# Altium footprint library GenericG.PcbLib: 32 footprints (part 2 of 2)
Each footprint in its own frame and in the unit in brackets; x right, y up, seen from the top. Pads: shape width x height; smd on the part's side, far side on the other; paste and mask are expansions set on the pad; w line width, h text height; cw(c..) or ccw(c..) is an arc to the next point about the centre after c.
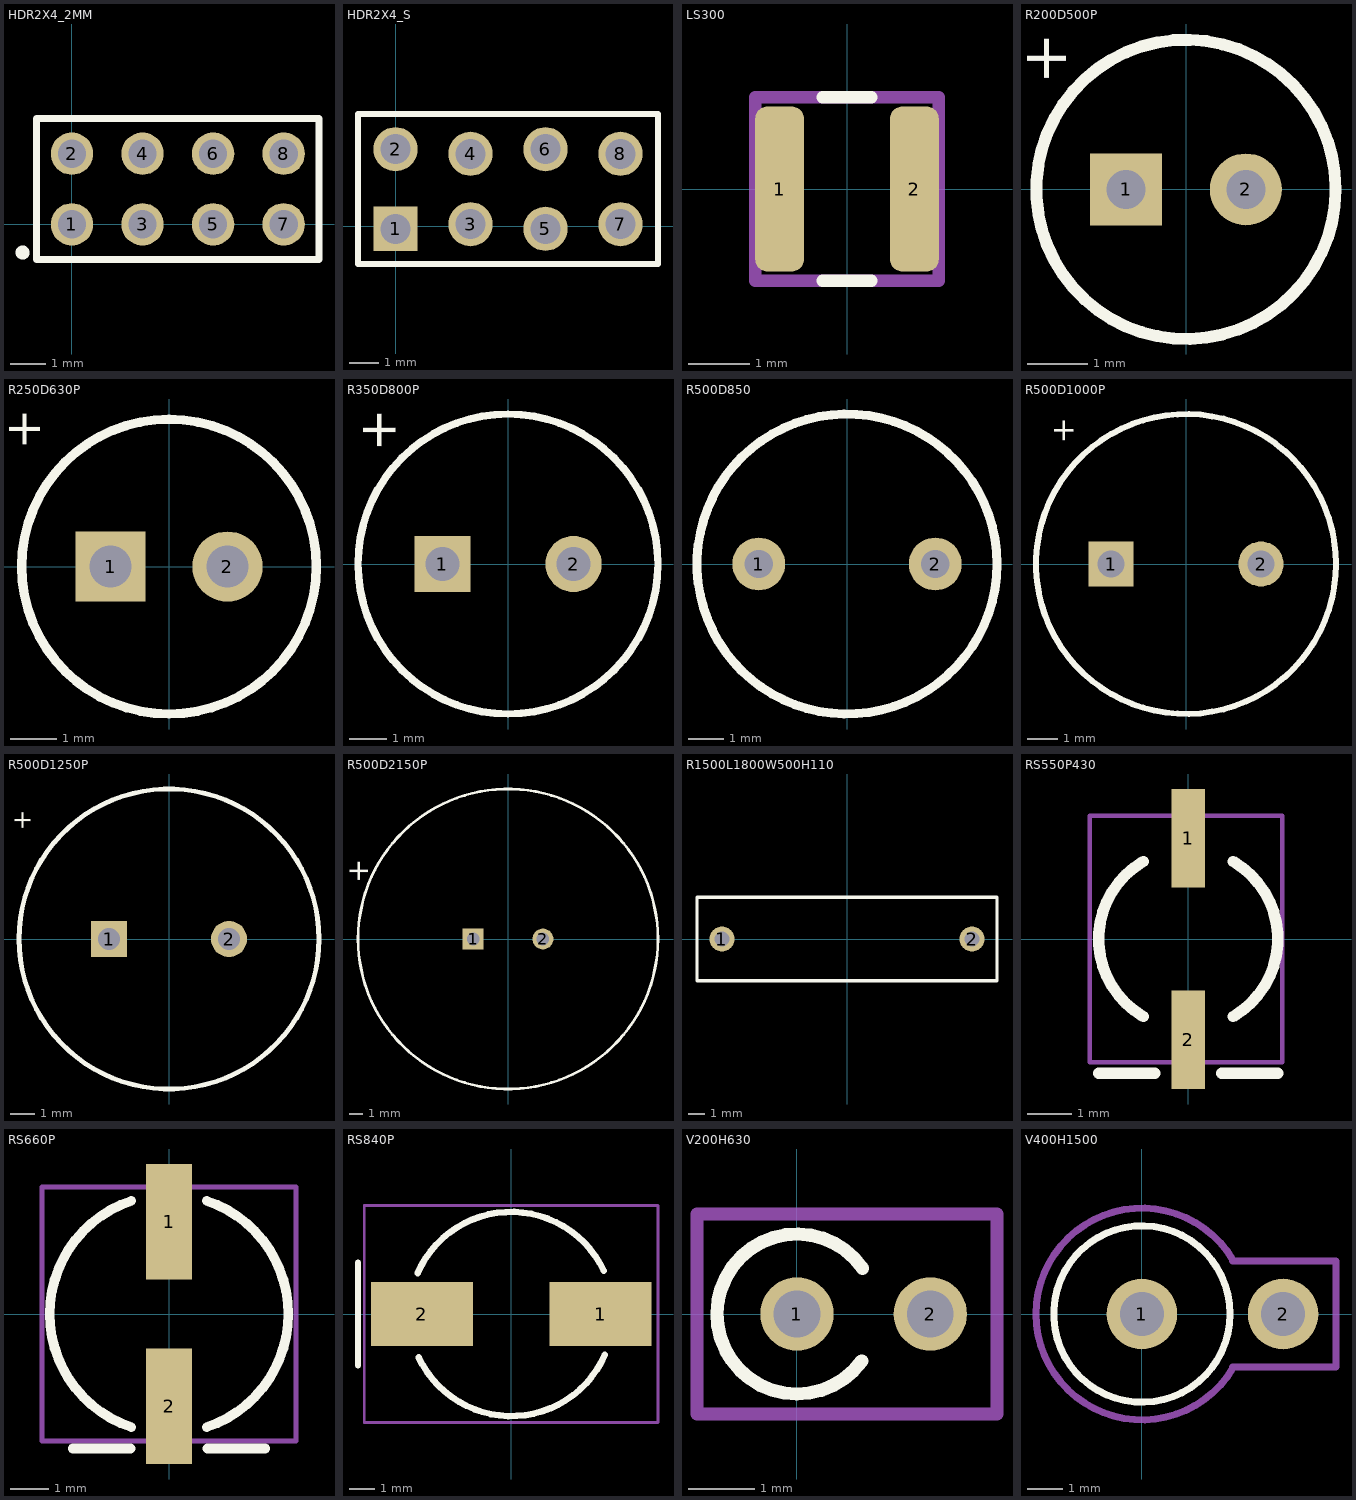
[diagram p1: the footprints below, top view; thin cyan lines are the x and y axes]

## HDR2X4_2MM [mm]
pads (8):
  round 1.2 hole 0.8: 1(0,0) 2(0,2) 3(2,0) 4(2,2) 5(4,0) 6(4,2) 7(6,0) 8(6,2)
Top Overlay:
  circle w0.2: c-1.4,-0.8 r0.1
  lines w0.2: -1,-1 7,-1 7,3 -1,3 -1,-1

## HDR2X4_S [mm] "Connector; Header; 4x2 Position"
pads (8):
  rect 1.5x1.5 hole 1.016: 1(0,-0.077)
  round 1.5 hole 1.016: 2(0,2.617) 3(2.54,0.077) 4(2.54,2.463) 5(5.08,-0.077) 6(5.08,2.617) 7(7.62,0.077) 8(7.62,2.463)
Top Overlay:
  lines w0.2: -1.27,-1.27 8.89,-1.27 8.89,3.81 -1.27,3.81 -1.27,-1.27
3D body: height 8.38, standoff -2.54, extent -1.27,-1.27 8.89,3.81

## LS300 [mm] "Inductor surface-mount 3mmx3mm"
pads (2):
  rrect50% 0.8x2.7 smd: 1(-1.1,0) 2(1.1,0)
Top Overlay:
  lines w0.2: -0.4,-1.5 0.4,-1.5 ; -0.4,1.5 0.4,1.5
Assembly:
  lines w0.2: -1.5,-1.5 1.5,-1.5 1.5,1.5 -1.5,1.5 -1.5,-1.5
3D body: height 1.5, standoff 0, extent -1.5,-1.5 1.5,1.5

## R200D500P [mm] "Radial, 2mm lead spacing and 5mm diameter, polarized"
height 13
pads (2):
  rect 1.2x1.2 hole 0.65: 1(-1,0)
  round 1.2 hole 0.65: 2(1,0)
Top Overlay:
  circle w0.2: c0,0 r2.5
  text "+" at -2,1.75 h0.76
3D body: height 13, standoff 0, extent -2.48,-2.495 2.5,2.495

## R250D630P [mm] "Radial, 2.5mm lead spacing and 6.3mm diameter, polarized"
height 11.2
pads (2):
  rect 1.5x1.5 hole 0.9: 1(-1.25,0)
  round 1.5 hole 0.9: 2(1.25,0)
Top Overlay:
  circle w0.2: c0,0 r3.15
  text "+" at -2.75,2.5 h0.76
3D body: height 11.2, standoff 0, extent -3.125,-3.144 3.15,3.144

## R350D800P [mm] "Radial, 3.5mm lead spacing and 8mm diameter, polarized"
height 15
pads (2):
  rect 1.5x1.5 hole 0.9: 1(-1.75,0)
  round 1.5 hole 0.9: 2(1.75,0)
Top Overlay:
  circle w0.2: c0,0 r4
  text "+" at -3,3 h1
3D body: height 15, standoff 0, extent -3.968,-3.992 4,3.992

## R500D850 [mm]
height 12
pads (2):
  round 1.5 hole 0.8: 1(-2.5,0) 2(2.5,0)
Top Overlay:
  circle w0.254: c0,0 r4.25
3D body: height 12, standoff 0, extent -4.216,-4.241 4.25,4.242

## R500D1000P [mm] "Radial, 5mm lead spacing and 10mm diameter, polarized"
height 17
pads (2):
  rect 1.5x1.5 hole 0.9: 1(-2.5,0)
  round 1.5 hole 0.9: 2(2.5,0)
Top Overlay:
  circle w0.2: c0,0 r5
  text "+" at -3.75,4 h0.76
3D body: height 17, standoff 0, extent -4.961,-4.99 5,4.99

## R500D1250P [mm] "Radial, 5mm lead spacing and 12.5mm diameter, polarized"
height 20
pads (2):
  rect 1.5x1.5 hole 0.9: 1(-2.5,0)
  round 1.5 hole 0.9: 2(2.5,0)
Top Overlay:
  circle w0.2: c0,0 r6.25
  text "+" at -5.75,4.5 h0.76
3D body: height 20, standoff 0, extent -6.25,-6.25 6.25,6.25

## R500D2150P [mm] "Radial, 5mm lead spacing and 21.5mm diameter, polarized"
height 7.5
pads (2):
  rect 1.5x1.5 hole 0.9: 1(-2.5,0)
  round 1.5 hole 0.9: 2(2.5,0)
Top Overlay:
  circle w0.2: c0,0 r10.75
  text "+" at -10,4 h1.52
3D body: height 7.5, standoff 0, extent -10.665,-10.729 10.75,10.729

## R1500L1800W500H110 [mm]
height 11
pads (2):
  round 1.5 hole 0.9: 1(-7.5,0) 2(7.5,0)
Top Overlay:
  lines w0.2: -9,-2.5 9,-2.5 9,2.5 -9,2.5 -9,-2.5
3D body: height 11.2, standoff 0, extent -9,-2.5 9,2.5

## RS550P430 [mm] "Surface-mount cap, 5.5x4.3mm, polarized"
height 5.8
pads (2):
  rect 0.75x2.2 smd: 1(0,2.25) 2(0,-2.25)
Top Overlay:
  lines w0.254: -2,-3 -0.75,-3 ; -1,-1.732 cw(c0,0) -1,1.732 ; 0.75,-3 2,-3 ; 1,-1.732 ccw(c0,0) 1,1.732
Courtyard:
  lines w0.1: -2.2,-2.75 2.1,-2.75 2.1,2.75 -2.2,2.75 -2.2,-2.75
3D body: height 1, standoff 0, extent -2.2,-2.75 2.1,2.75
3D body: height 5.8, standoff 0, extent -1.984,-1.996 2,1.996

## RS660P [mm] "Surface-mount cap, 6.6x6.6mm, polarized"
height 7.7
pads (2):
  rect 1.2x3 smd: 1(0,2.4) 2(0,-2.4)
Top Overlay:
  lines w0.254: -2.5,-3.5 -1,-3.5 ; -0.981,-2.942 cw(c0,0) -0.981,2.942 ; 0.981,-2.942 ccw(c0,0) 0.981,2.942 ; 1,-3.5 2.5,-3.5
Courtyard:
  lines w0.127: -3.3,-3.3 3.3,-3.3 3.3,3.3 -3.3,3.3 -3.3,-3.3
3D body: height 7.7, standoff 0, extent -3.125,-3.144 3.15,3.144

## RS840P [mm] "Surface-mount cap, 8.4mm x 8.4mm, polarized"
height 10
pads (2):
  rect 4x2.5 smd: 1(3.5,0) 2(-3.5,0)
Top Overlay:
  lines w0.254: -6,-2 -6,2 ; -3.665,1.603 cw(c0,0) 3.625,1.692 ; -3.625,-1.692 ccw(c0,0) 3.665,-1.603
Courtyard:
  lines w0.1: -5.75,-4.25 5.75,-4.25 5.75,4.25 -5.75,4.25 -5.75,-4.25
3D body: height 10, standoff 0, extent -3.968,-3.992 4,3.992

## V200H630 [mm] "Axial vertical, 6.3mm x 2.4mm, 2mm pitch"
pads (2):
  round 1.1 hole 0.7: 1(0,0) 2(2,0)
Top Overlay:
  lines w0.2: 0.97,-0.706 cw(c0,0) 0.983,0.688
Courtyard:
  lines w0.2: -1.5,-1.5 -1.5,1.5 3,1.5 3,-1.5 -1.5,-1.5
3D body: height 8.3, standoff 2, extent -1.19,-1.198 1.2,1.198

## V400H1500 [mm] "Axial vertical, 12mm x 5mm, 4mm pitch"
pads (2):
  round 2 hole 1.25: 1(0,0) 2(4,0)
Top Overlay:
  circle w0.2: c0,0 r2.5
Courtyard:
  lines w0.2: 2.572,-1.543 cw(c0,0) 2.572,1.543 ; 2.572,-1.5 5.5,-1.5 ; 2.572,1.5 5.5,1.5 ; 5.5,-1.5 5.5,1.5 ; 5.5,-1.5 5.5,-1.5 ; 5.5,1.5 5.5,1.5
3D body: height 15, standoff 3, extent -2.495,-2.48 2.495,2.5